# EAGLE library part PIXART_WII (library custom)
Custom footprint for Wii PixArt Sensor.
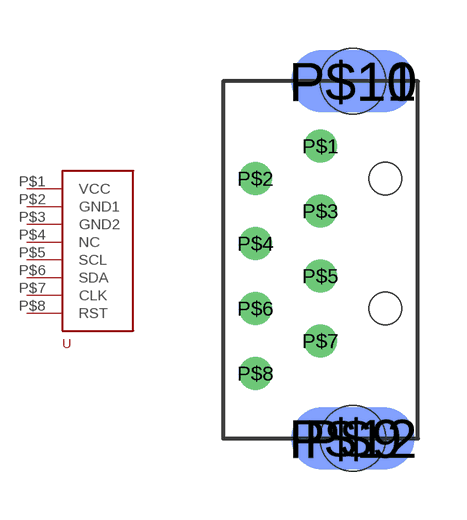
[diagram p0: symbol with the pads of PIXART_WII; footprint PIXART_WII]

Designator prefix -

## PIXART_WII  [PIXART_WII]
P$1  VCC
P$2  GND1
P$3  GND2
P$4  NC
P$5  SCL
P$6  SDA
P$7  CLK
P$8  RST

## Footprint PIXART_WII (pad centres in mm)
Custom footprint for Wii PixArt Sensor.
drill 0.5: P$1 1,4; P$2 -1,3; P$3 1,2; P$4 -1,1; P$5 1,0; P$6 -1,-1; P$7 1,-2; P$8 -1,-3
smd 3.81 x 1.93: P$9 2,-5; P$10 2,6
smd 3.81 x 1.93 bottom: P$11 2,6; P$12 2,-5
hole 1 at 3,3
hole 1 at 3,-1
hole 2 at 2,6
hole 2 at 2,-5